# Altium schematic symbol library Schlib1.SchLib: 3 symbols
Pins are listed as number, name and electrical type; pins without a type are passive.

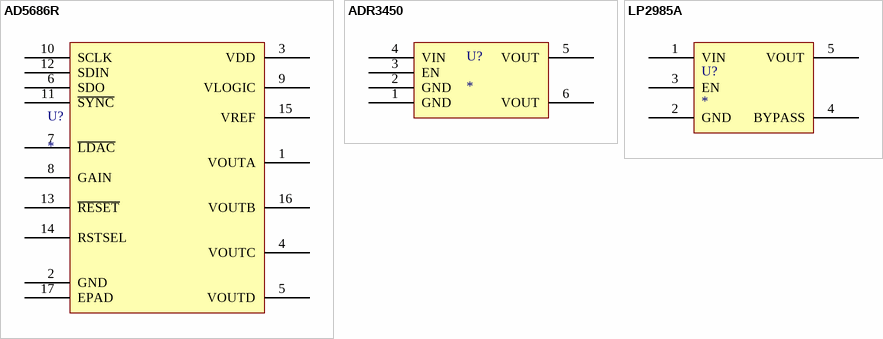
[diagram p0: symbols AD5686R to LP2985A]

## AD5686R
designator U?
pins: 1 VOUTA, 2 GND, 3 VDD, 4 VOUTC, 5 VOUTD, 6 SDO, 7 ~{LDAC}, 8 GAIN, 9 VLOGIC, 10 SCLK, 11 ~{SYNC}, 12 SDIN, 13 ~{RESET}, 14 RSTSEL, 15 VREF, 16 VOUTB, 17 EPAD

## ADR3450
designator U?
pins: 1 GND, 2 GND, 3 EN, 4 VIN, 5 VOUT, 6 VOUT

## LP2985A
designator U?
pins: 1 VIN, 2 GND, 3 EN, 4 BYPASS, 5 VOUT